# EAGLE library part SD_B (library tlc5940)
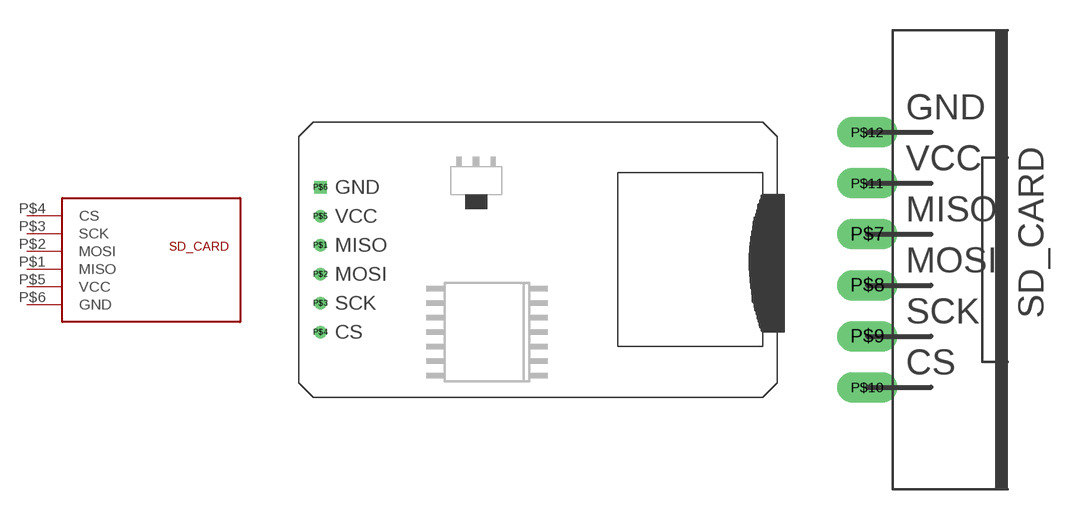
[diagram p4: symbol with the pads of SD_BH; footprints SD_BH, SD_BV]

Designator prefix -

## SD_BHORIZONTAL  [SD_BH]
P$1  MISO
P$2  MOSI
P$3  SCK
P$4  CS
P$5  VCC
P$6  GND

## SD_BVERICAL  [SD_BV]
P$7  MISO
P$8  MOSI
P$9  SCK
P$10  CS
P$11  VCC
P$12  GND

## Footprint SD_BH (pad centres in mm)
drill 0.6: P$1 -17.145,1.27; P$2 -17.145,-1.27; P$3 -17.145,-3.81; P$4 -17.145,-6.35; P$5 -17.145,3.81
drill 0.6 square: P$6 -17.145,6.35

## Footprint SD_BV (pad centres in mm)
drill 1 long: P$7 -1.27,1.27; P$8 -1.27,-1.27; P$9 -1.27,-3.81; P$10 -1.27,-6.35; P$11 -1.27,3.81; P$12 -1.27,6.35